# Altium footprint library PcbLib1.PcbLib: 1 footprints
Each footprint in its own frame and in the unit in brackets; x right, y up, seen from the top. Pads: shape width x height; smd on the part's side, far side on the other; paste and mask are expansions set on the pad; w line width, h text height; cw(c..) or ccw(c..) is an arc to the next point about the centre after c.
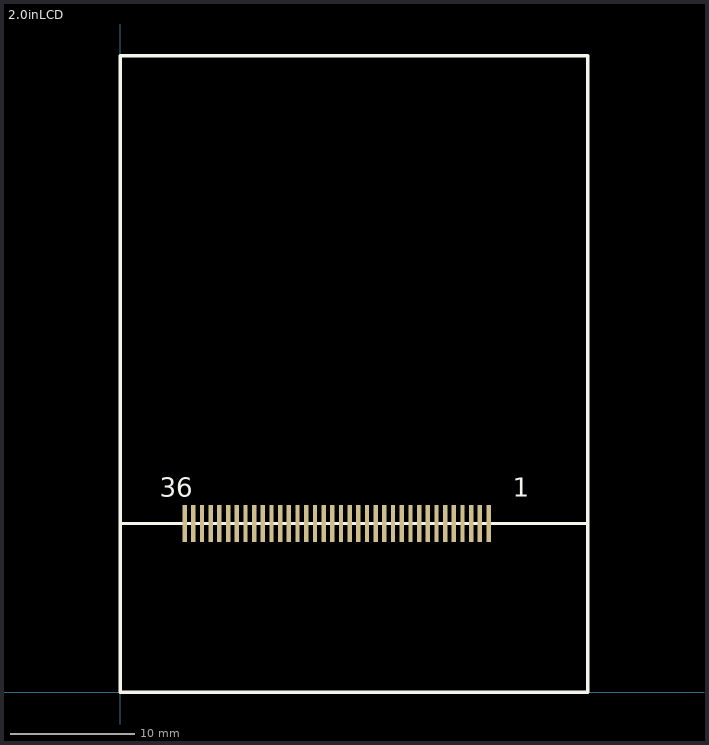
[diagram p0: the footprint, top view; thin cyan lines are the x and y axes]

## 2.0inLCD [mm]
pads (37):
  rect 0.35x3 smd: 1(29.69,13.589) 1(29.69,13.589) 2(28.99,13.589) 3(28.29,13.589) 4(27.59,13.589) 5(26.89,13.589) 6(26.19,13.589) 7(25.49,13.589) 8(24.79,13.589) 9(24.09,13.589) 10(23.39,13.589) 11(22.69,13.589) 12(21.99,13.589) 13(21.29,13.589) 14(20.59,13.589) 15(19.89,13.589) 16(19.19,13.589) 17(18.49,13.589) 18(17.79,13.589) 19(17.09,13.589) 20(16.39,13.589) 21(15.69,13.589) 22(14.99,13.589) 23(14.29,13.589) 24(13.59,13.589) 25(12.89,13.589) 26(12.19,13.589) 27(11.49,13.589) 28(10.79,13.589) 29(10.09,13.589) 30(9.39,13.589) 31(8.69,13.589) 32(7.99,13.589) 33(7.29,13.589) 34(6.59,13.589) 35(5.89,13.589) 36(5.207,13.589)
Top Overlay:
  lines w0.254: 0,13.6 37.592,13.6 ; 0,0 37.68,0 37.68,51.3 0,51.3 0,0
  text "36" at 3.175,15.748 h1.52
  text "1" at 31.623,15.748 h1.52